# EAGLE library part #FREETHEC (library comma.ai)
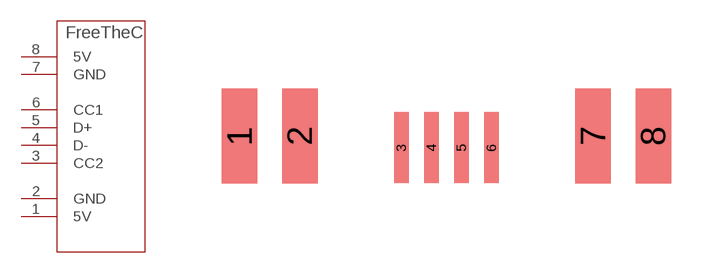
[diagram p41: symbol with the pads of C_BREAKOUT; footprint C_BREAKOUT]

Designator prefix J

## #FREETHECSMD  [C_BREAKOUT]
1  5V
2  GND
3  CC2
4  D-
5  D+
6  CC1
7  GND
8  5V

## Footprint C_BREAKOUT (pad centres in mm)
smd 1.5 x 4: 1 -8.74,1; 2 -6.2,1; 7 6.2,1; 8 8.74,1
smd 0.6 x 3: 3 -1.905,0.508; 4 -0.635,0.508; 5 0.635,0.508; 6 1.905,0.508